# Altium footprint library lib_yageo.PcbLib: 1 footprints
Each footprint in its own frame and in the unit in brackets; x right, y up, seen from the top. Pads: shape width x height; smd on the part's side, far side on the other; paste and mask are expansions set on the pad; w line width, h text height; cw(c..) or ccw(c..) is an arc to the next point about the centre after c.
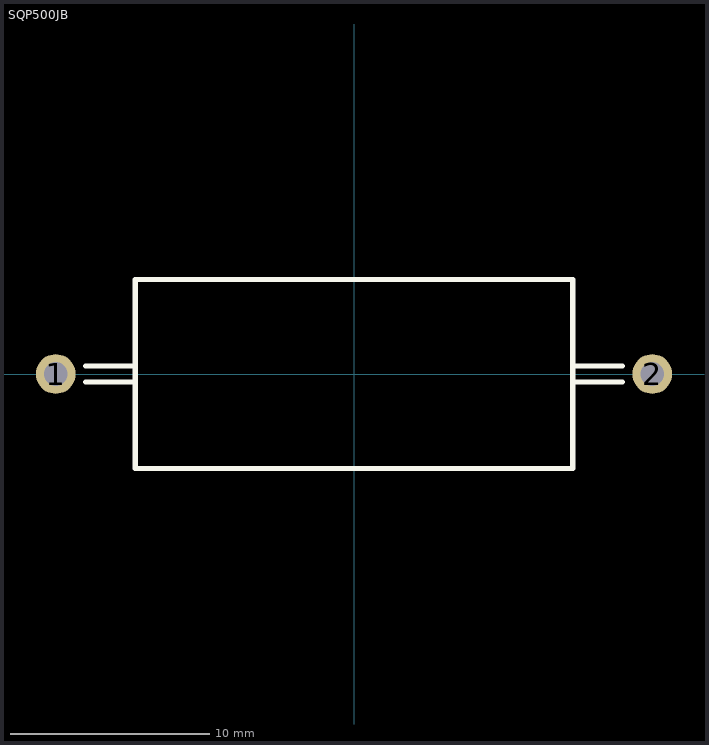
[diagram p0: the footprint, top view; thin cyan lines are the x and y axes]

## SQP500JB [mm]
pads (2):
  round 2 hole 1.2: 1(-15,0) 2(15,0)
Top Overlay:
  lines w0.254: -13.5,-0.4 -11,-0.4 ; -13.5,0.4 -11,0.4 ; 11,-0.4 13.5,-0.4 ; 11,0.4 13.5,0.4 ; -11,-4.75 -11,4.75 0,4.75 11,4.75 11,-4.75 0,-4.75 -11,-4.75
3D body "SQP500.step": height 10, standoff -4, extent -15.4,-4.75 15.397,4.75